# Altium schematic symbol library 2016-05-17_12-43-15.SchLib: 17 symbols
Pins are listed as number, name and electrical type; pins without a type are passive.

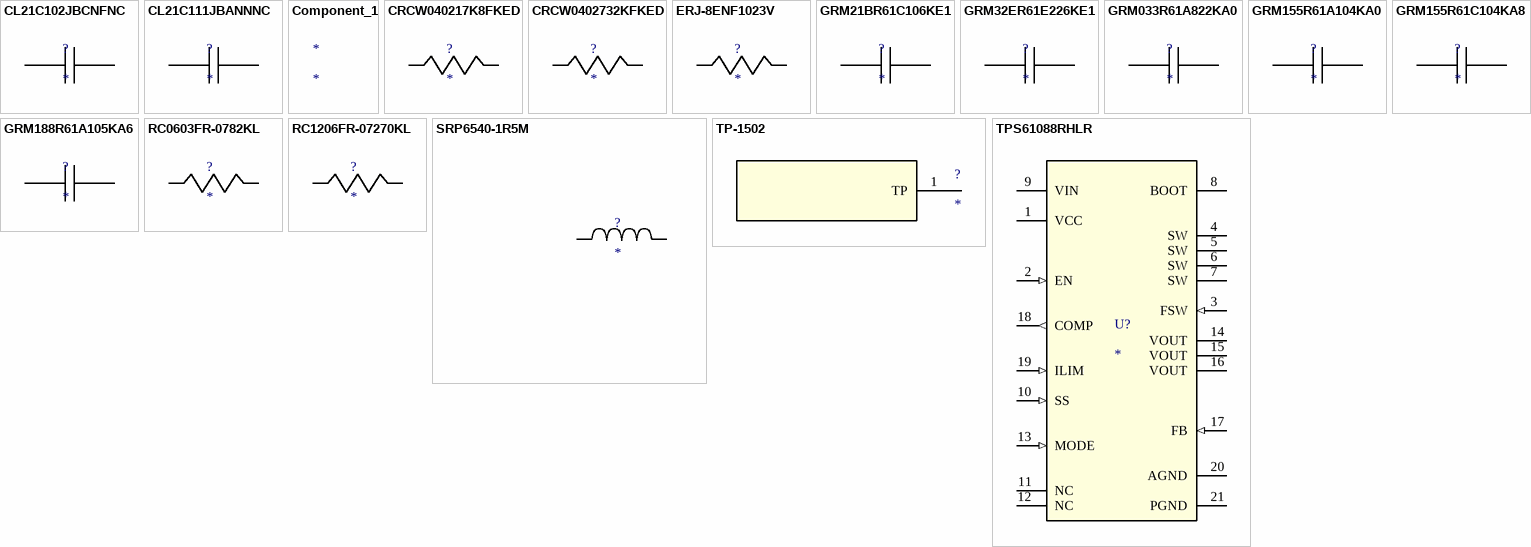
[diagram p0: symbols CL21C102JBCNFNC to TPS61088RHLR]

## CL21C102JBCNFNC
designator ?
Imported; Manufacturer_Part_Number: CL21C102JBCNFNC; Vendor: Samsung Electro-Mechanics; RefDes: RefDes; TYPE: TYPE; Value: Value
footprint 0805
pins: 1, 2

## CL21C111JBANNNC
designator ?
Imported; Manufacturer_Part_Number: CL21C111JBANNNC; Vendor: Samsung Electro-Mechanics; RefDes: RefDes; TYPE: TYPE; Value: Value
footprint 0805
pins: 1, 2

## Component_1
designator *

## CRCW040217K8FKED
designator ?
Imported; Manufacturer_Part_Number: CRCW040217K8FKED; Vendor: Vishay-Dale; RefDes: RefDes; TYPE: TYPE; Value: Value
footprint 0402
pins: 1, 2

## CRCW0402732KFKED
designator ?
Imported; Manufacturer_Part_Number: CRCW0402732KFKED; Vendor: Vishay-Dale; RefDes: RefDes; TYPE: TYPE; Value: Value
footprint 0402
pins: 1, 2

## ERJ-8ENF1023V
designator ?
Imported; Manufacturer_Part_Number: ERJ-8ENF1023V; Vendor: Panasonic; RefDes: RefDes; TYPE: TYPE; Value: Value
footprint 1206
pins: 1, 2

## GRM21BR61C106KE1
designator ?
Imported; Manufacturer_Part_Number: GRM21BR61C106KE15L; Vendor: MuRata; RefDes: RefDes; TYPE: TYPE; Value: Value
footprint 0805
pins: 1, 2

## GRM32ER61E226KE1
designator ?
Imported; Manufacturer_Part_Number: GRM32ER61E226KE15L; Vendor: MuRata; RefDes: RefDes; TYPE: TYPE; Value: Value
footprint 1210
pins: 1, 2

## GRM033R61A822KA0
designator ?
Imported; Manufacturer_Part_Number: GRM033R61A822KA01D; Vendor: MuRata; RefDes: RefDes; TYPE: TYPE; Value: Value
footprint 0201
pins: 1, 2

## GRM155R61A104KA0
designator ?
Imported; Manufacturer_Part_Number: GRM155R61A104KA01D; Vendor: MuRata; RefDes: RefDes; TYPE: TYPE; Value: Value
footprint 0402
pins: 1, 2

## GRM155R61C104KA8
designator ?
Imported; Manufacturer_Part_Number: GRM155R61C104KA88D; Vendor: MuRata; RefDes: RefDes; TYPE: TYPE; Value: Value
footprint 0402
pins: 1, 2

## GRM188R61A105KA6
designator ?
Imported; Manufacturer_Part_Number: GRM188R61A105KA61D; Vendor: MuRata; RefDes: RefDes; TYPE: TYPE; Value: Value
footprint 0603
pins: 1, 2

## RC0603FR-0782KL
designator ?
Imported; Manufacturer_Part_Number: RC0603FR-0782KL; Vendor: Yageo America; RefDes: RefDes; TYPE: TYPE; Value: Value
footprint 0603
pins: 1, 2

## RC1206FR-07270KL
designator ?
Imported; Manufacturer_Part_Number: RC1206FR-07270KL; Vendor: Yageo America; RefDes: RefDes; TYPE: TYPE; Value: Value
footprint 1206
pins: 1, 2

## SRP6540-1R5M
designator ?
Imported; Manufacturer_Part_Number: SRP6540-1R5M; Vendor: Bourns; DESCRIPTION: Unknown; PACKAGE_DESIGNATOR: SRP6540; Manufacturer: Bourns; RefDes: RefDes; TYPE: TYPE; Value: Value
footprint SRP6540
pins: 1, 2

## TP-1502
designator ?
Imported; Value: Value; Type: Type; RefDes: RefDes
footprint TP-1502
pins: 1 TP

## TPS61088RHLR
designator U?
Imported; PartNumber: TPS61088RHLR; Alternate PartNumber: TPS61088RHLT; Manufacturer: Texas Instruments; CompType: IC; PIN_COUNT: 21; Application_BuildNumber: *; PackageReference: RHL0020A; MountType: SMT; RoHS: Y; RefDes: RefDes; TYPE: TYPE; Value: Value
footprint RHL0020A
pins: 1 VCC (power), 2 EN (in), 3 FSW (in), 4 SW (power), 5 SW (power), 6 SW (power), 7 SW (power), 8 BOOT (power), 9 VIN (power), 10 SS (in), 11 NC, 12 NC, 13 MODE (in), 14 VOUT (power), 15 VOUT (power), 16 VOUT (power), 17 FB (in), 18 COMP (out), 19 ILIM (in), 20 AGND (power), 21 PGND (power)